# Altium footprint library SON_95P_V.PcbLib: 2 footprints
Each footprint in its own frame and in the unit in brackets; x right, y up, seen from the top. Pads: shape width x height; smd on the part's side, far side on the other; paste and mask are expansions set on the pad; w line width, h text height; cw(c..) or ccw(c..) is an arc to the next point about the centre after c.
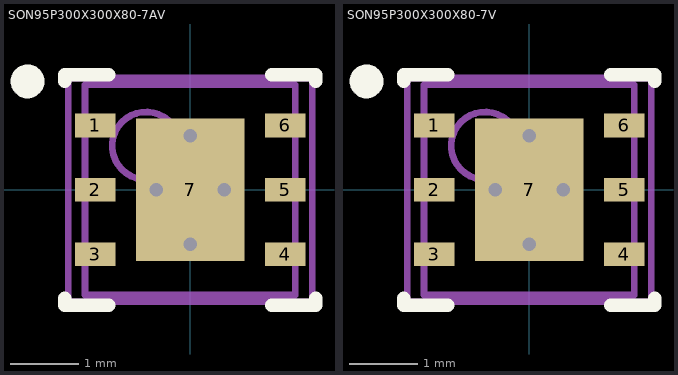
[diagram p0: the footprints below, top view; thin cyan lines are the x and y axes]

## SON95P300X300X80-7AV [mm] "SON, 6-Leads, Body 3x3 mm, Pitch 0.95mm, NSC Recommended"
height 0.8
pads (7):
  rect 0.6x0.35 smd paste-0.175 mask+0.051: 1(-1.4,0.95) 2(-1.4,0) 3(-1.4,-0.95) 4(1.4,-0.95) 5(1.4,0) 6(1.4,0.95)
  rect 1.6x2.1 smd paste-0.8 mask+0.051: 7(0,0)
via 0,-0.8 diameter 0.5 hole 0.2
via 0.5,0 diameter 0.5 hole 0.2
via 0,0.8 diameter 0.5 hole 0.2
via -0.5,0 diameter 0.5 hole 0.2
Top Overlay:
  circle w0.25: c-2.4,1.6 r0.125
  lines w0.2: -1.85,-1.6 -1.85,-1.7 -1.2,-1.7 ; -1.85,1.6 -1.85,1.7 -1.2,1.7 ; 1.2,-1.7 1.85,-1.7 1.85,-1.6 ; 1.2,1.7 1.85,1.7 1.85,1.6
Top Paste:
  rectangle: -0.76,-1 0.76,1
  region: 1.9,1.125 1.2,1.125 1.2,0.775 1.9,0.775
  region: 1.9,0.175 1.2,0.175 1.2,-0.175 1.9,-0.175
  region: 1.9,-0.775 1.2,-0.775 1.2,-1.125 1.9,-1.125
  rectangle: -1.9,-1.125 -1.2,-0.775
  rectangle: -1.9,-0.175 -1.2,0.175
  rectangle: -1.9,0.775 -1.2,1.125
Mechanical 13:
  circle w0.1: c-0.65,0.65 r0.5
  lines w0.1: -1.55,-1.55 1.55,-1.55 1.55,1.55 -1.55,1.55 -1.55,-1.55
Mechanical 15:
  lines w0.1: -0.5,0 0.5,0 ; 0,-0.5 0,0.5 ; -1.8,-1.65 -1.8,1.65 1.8,1.65 1.8,-1.65 -1.8,-1.65
3D body: height 0.8, standoff 0, extent -1.55,-1.55 1.55,1.55

## SON95P300X300X80-7V [mm] "SON, 6-Leads, Body 3x3 mm, Pitch 0.95mm, NSC Recommended"
height 0.8
pads (7):
  rect 0.6x0.35 smd paste-0.175 mask+0.051: 1(-1.4,0.95) 2(-1.4,0) 3(-1.4,-0.95) 4(1.4,-0.95) 5(1.4,0) 6(1.4,0.95)
  rect 1.6x2.1 smd paste-0.8 mask+0.051: 7(0,0)
via 0,-0.8 diameter 0.5 hole 0.2
via 0.5,0 diameter 0.5 hole 0.2
via 0,0.8 diameter 0.5 hole 0.2
via -0.5,0 diameter 0.5 hole 0.2
Top Overlay:
  circle w0.25: c-2.4,1.6 r0.125
  lines w0.2: -1.85,-1.6 -1.85,-1.7 -1.2,-1.7 ; -1.85,1.6 -1.85,1.7 -1.2,1.7 ; 1.2,-1.7 1.85,-1.7 1.85,-1.6 ; 1.2,1.7 1.85,1.7 1.85,1.6
Top Paste:
  rectangle: 0.1,-0.95 0.7,-0.1
  region: -0.1,-0.1 -0.7,-0.1 -0.7,-0.95 -0.1,-0.95
  region: -0.1,0.95 -0.7,0.95 -0.7,0.1 -0.1,0.1
  rectangle: 0.1,0.1 0.7,0.95
  region: 1.9,1.125 1.2,1.125 1.2,0.775 1.9,0.775
  region: 1.9,0.175 1.2,0.175 1.2,-0.175 1.9,-0.175
  region: 1.9,-0.775 1.2,-0.775 1.2,-1.125 1.9,-1.125
  rectangle: -1.9,-1.125 -1.2,-0.775
  rectangle: -1.9,-0.175 -1.2,0.175
  rectangle: -1.9,0.775 -1.2,1.125
Mechanical 13:
  circle w0.1: c-0.65,0.65 r0.5
  lines w0.1: -1.55,-1.55 1.55,-1.55 1.55,1.55 -1.55,1.55 -1.55,-1.55
Mechanical 15:
  lines w0.1: -0.5,0 0.5,0 ; 0,-0.5 0,0.5 ; -1.8,-1.65 -1.8,1.65 1.8,1.65 1.8,-1.65 -1.8,-1.65
3D body: height 0.8, standoff 0, extent -1.55,-1.55 1.55,1.55